# Altium footprint library ProjectAir_PcbLib.PcbLib: 19 footprints (part 1 of 2)
Each footprint in its own frame and in the unit in brackets; x right, y up, seen from the top. Pads: shape width x height; smd on the part's side, far side on the other; paste and mask are expansions set on the pad; w line width, h text height; cw(c..) or ccw(c..) is an arc to the next point about the centre after c.
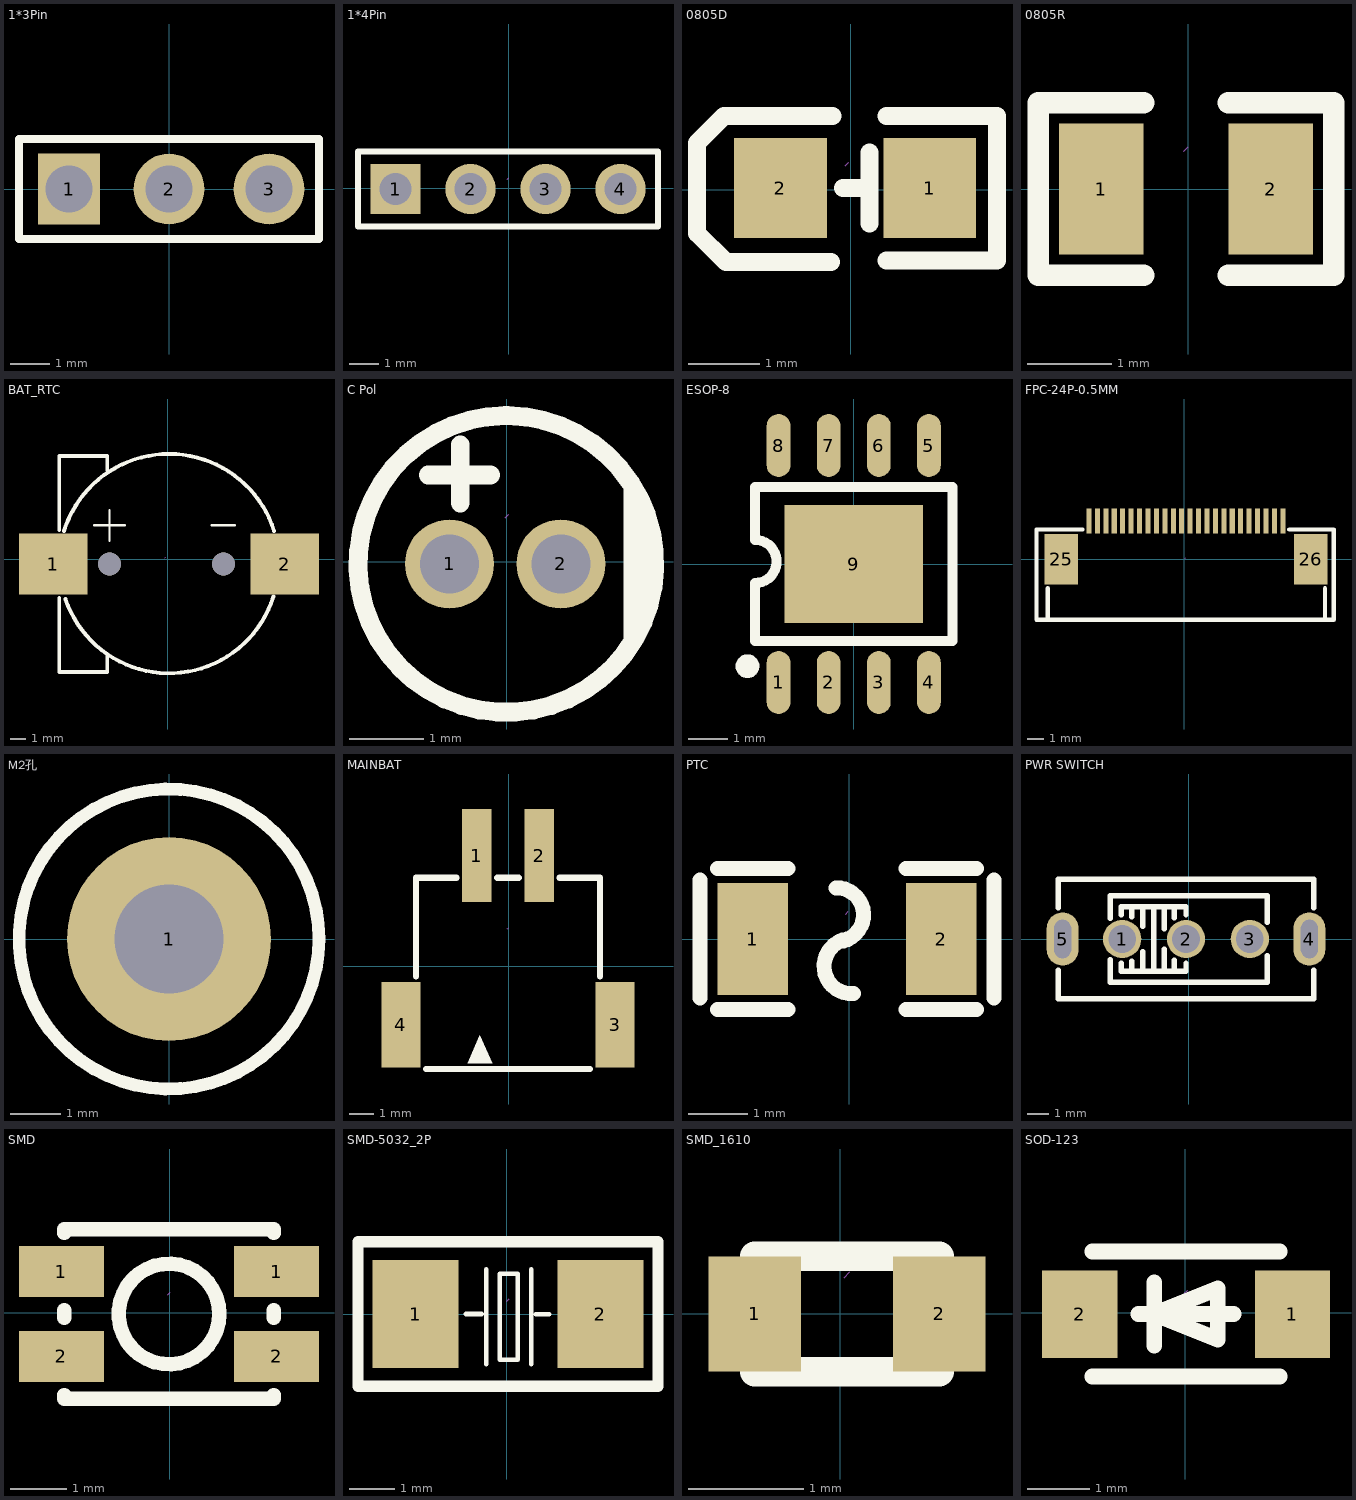
[diagram p0: the footprints below, top view; thin cyan lines are the x and y axes]

## 1*3Pin [mm] "1*3PIN"
pads (3):
  rect 1.575x1.8 hole 1.2: 1(-2.54,0)
  round 1.8 hole 1.2: 2(0,0) 3(2.54,0)
Top Overlay:
  lines w0.203: -3.81,-1.27 -3.81,1.27 -1.905,1.27 3.81,1.27 3.81,-1.27 -3.81,-1.27
Mechanical 15:
  lines w0.003: -0.025,0.337 0.025,0.387

## 1*4Pin [mil] "1*4PIN"
pads (4):
  rect 66.93x66.93 hole 43.31: 1(-151,-1)
  round 66.93 hole 43.31: 2(-51,-1) 3(49,-1) 4(149,-1)
Top Overlay:
  lines w7.99: -126,49 199,49
  lines w8: -126,49 -201,49 -201,-51 199,-51 199,49
Mechanical 15:
  lines w0.1: -2,12.25 0,14.25

## 0805D [mm] "DIODE 0805"
pads (2):
  rect 1.3x1.4 smd: 1(1.115,0.027) 2(-0.986,0.027)
Top Overlay:
  lines w0.254: -0.279,-1.016 -1.753,-1.016 -2.159,-0.61 -2.159,0.66 -1.778,1.041 -0.254,1.041 ; -0.104,0.027 0.165,0.027 ; 0.265,-0.474 0.265,0.527 ; 0.508,-0.991 2.057,-0.991 2.057,1.041 0.508,1.041
Mechanical 15:
  lines w0.003: -0.076,0.337 -0.025,0.387

## 0805R [mm] "0805R"
pads (2):
  rect 1x1.55 smd: 1(-1.028,0) 2(0.972,0)
Top Overlay:
  lines w0.254: -0.528,-1.02 -1.778,-1.02 -1.778,1.02 -0.528,1.02 ; 0.472,-1.02 1.722,-1.02 1.722,1.02 0.472,1.02
Mechanical 15:
  lines w0.003: -0.053,0.449 -0.003,0.5

## BAT_RTC [mm] "BAT_RTC"
pads (4):
  rect 4.5x4 smd: 1(-7.529,-0.299) 2(7.711,-0.299)
  round 1.5 hole 1.5 unplated: ""(-3.82,-0.299) ""(3.673,-0.299)
Top Overlay:
  lines w0.152: -4.836,2.241 -2.804,2.241 ; -3.82,1.225 -3.82,3.257 ; 2.911,2.241 4.435,2.241
  lines w0.254: -7.129,-2.53 -7.129,-7.411 -3.973,-7.411 -3.973,-6.211 ; -7.129,1.932 -7.129,6.813 -3.973,6.813 -3.973,5.872 ; -6.82,1.876 cw(c0.091,-0.299) 7.009,1.855 ; -6.724,-2.596 ccw(c0.091,-0.299) 6.963,-2.423
Mechanical 15:
  lines w0.003: -0.188,0.111 -0.138,0.162

## C Pol [mm] "C Pol"
pads (2):
  round 1.2 hole 0.8: 1(-0.773,-0.031) 2(0.729,-0.031)
Top Overlay:
  region: 1.578,-1.231 1.688,-1.108 1.859,-0.827 1.977,-0.52 2.037,-0.196 2.037,0.134 1.977,0.458 1.86,0.765 1.688,1.046 1.578,1.169
  lines w0.254: -1.06,1.169 -0.222,1.169 ; -0.628,0.788 -0.628,1.575 ; -0.023,1.968 ccw(c-0.007,-0.032) 0.01,1.968
Mechanical 15:
  lines w0.003: -0.023,0.591 0.028,0.642

## ESOP-8 [mm] "TC4056C"
pads (9):
  oval 0.6x1.598 smd: 1(-1.905,-3) 2(-0.635,-3) 3(0.635,-3) 4(1.905,-3) 5(1.905,3) 6(0.635,3) 7(-0.635,3) 8(-1.905,3)
  rect 3.5x3 smd: 9(0,0)
Top Overlay:
  lines w0.254: -2.5,-1.95 2.5,-1.95 2.5,1.95 -2.5,1.95 -2.5,0.61 cw(c-2.5,0.064) -2.499,-0.483 -2.5,-1.95
  lines w0.3: -2.692,-2.438 ccw(c-2.691,-2.588) -2.69,-2.438

## FPC-24P-0.5MM [mm] "FPC-24P"
pads (26):
  rect 0.3x1.5 smd: 1(5.854,2.254) 2(5.354,2.254) 3(4.854,2.254) 4(4.354,2.254) 5(3.854,2.254) 6(3.354,2.254) 7(2.854,2.254) 8(2.354,2.254) 9(1.854,2.254) 10(1.354,2.254) 11(0.854,2.254) 12(0.354,2.254) 13(-0.146,2.254) 14(-0.646,2.254) 15(-1.142,2.256) 16(-1.645,2.255) 17(-2.145,2.254) 18(-2.645,2.254) 19(-3.145,2.254) 20(-3.647,2.257) 21(-4.147,2.257) 22(-4.647,2.257) 23(-5.147,2.257) 24(-5.647,2.257)
  rect 2x3 smd: 25(-7.292,-0.006) 26(7.51,0)
Top Overlay:
  lines w0.254: -8.763,1.753 -8.763,-3.597 8.879,-3.596 8.879,1.754 6.235,1.754 ; -8.763,1.754 -6.029,1.754 ; -8.101,-3.596 -8.101,-1.737 ; 8.358,-3.596 8.358,-1.731
Mechanical 15:
  lines w0.003: 0.033,0.033 0.083,0.084

## M2孔 [mm] "M2孔"
pads (1):
  round 4.08 hole 2.175: 1(0,0)
Top Overlay:
  circle w0.254: c0,0 r3

## MAINBAT [mm] "MAINBATTARY"
pads (4):
  rect 1.2x3.8 smd: 1(-1.307,4.509) 2(1.233,4.509)
  rect 1.6x3.5 smd: 3(4.333,-2.391) 4(-4.407,-2.391)
Top Overlay:
  region: -1.688,-3.957 -0.799,-3.957 -0.672,-3.957 -1.18,-2.814
  lines w0.254: -3.787,-0.41 -3.787,3.609 -2.138,3.609 ; -3.384,-4.191 3.31,-4.191 ; -0.476,3.609 0.402,3.609 ; 2.064,3.609 3.713,3.609 3.713,-0.41
Mechanical 15:
  lines w0.003: -0.062,1.526 -0.012,1.577

## PTC [mm] "PTC"
pads (2):
  rect 1.2x1.9 smd: 1(-1.64,0) 2(1.56,0)
Top Overlay:
  lines w0.254: -2.54,-1 -2.54,1 ; -2.24,-1.2 -1.04,-1.2 ; -2.24,1.2 -1.04,1.2 ; -0.23,0.87 cw(c-0.218,0.411) -0.177,-0.046 ; -0.04,0 ccw(c0.039,-0.462) 0.07,-0.93 ; 0.96,-1.2 2.16,-1.2 ; 0.96,1.2 2.16,1.2 ; 2.46,-1 2.46,1
Mechanical 15:
  lines w0.003: -0.065,0.422 -0.015,0.473

## PWR SWITCH [mm] "PWR SWITCH"
pads (5):
  round 1.8 hole 1.3: 1(-3.127,0) 2(-0.127,0) 3(2.873,0)
  oval 1.5x2.499 hole 0.8 slot 1.8 at 90 deg: 4(5.673,0) 5(-5.927,0)
Top Overlay:
  lines w0.254: -6.127,-1.46 -6.127,-2.8 5.873,-2.8 5.873,-1.46 ; -6.127,1.46 -6.127,2.8 5.873,2.8 5.873,1.46 ; -3.683,-0.985 -3.683,-2.032 3.683,-2.032 3.683,-0.788 ; -3.683,0.985 -3.683,2.032 3.683,2.032 3.683,0.788 ; -3.175,-1.13 -3.175,-1.524 -0.127,-1.524 -0.127,-1.131 ; -3.175,1.13 -3.175,1.524 -0.127,1.524 -0.127,1.131 ; -2.676,-1.524 -2.676,-1.037 ; -2.676,1.037 -2.676,1.524 ; -2.168,-1.524 -2.168,-0.598 ; -2.168,0.598 -2.168,1.524 ; -1.651,-1.524 -1.651,1.524 ; -1.152,-1.524 -1.152,-0.474 ; -1.152,0.474 -1.152,1.524 ; -0.67,-1.524 -0.67,-0.992 ; -0.67,0.992 -0.67,1.524
Mechanical 15:
  lines w0.003: -0.152,0.575 -0.102,0.626

## SMD [mm] "KEY"
pads (4):
  rect 1.5x0.9 smd: 1(-1.917,0.726) 1(1.883,0.726) 2(-1.917,-0.774) 2(1.883,-0.774)
Top Overlay:
  circle w0.254: c-0.017,-0.024 r0.889
  lines w0.254: -1.867,-1.455 -1.867,-1.524 1.833,-1.524 1.833,-1.455 ; -1.867,-0.093 -1.867,0.045 ; -1.867,1.407 -1.867,1.476 1.833,1.476 1.833,1.407 ; 1.833,-0.093 1.833,0.045
Mechanical 15:
  lines w0.003: -0.042,0.312 0.008,0.363

## SMD-5032_2P [mm] "8M XTAL"
pads (2):
  rect 1.9x2.4 smd: 1(-2.027,0) 2(2.073,0)
Top Overlay:
  lines w0.1: -0.917,0 -0.561,0 ; -0.46,-1.109 -0.46,0.991 ; 0.54,-1.109 0.54,0.991 ; 0.64,-0.009 0.94,-0.009 ; -0.16,-1.009 0.24,-1.009 0.24,0.89 -0.16,0.89 -0.16,-1.009
  lines w0.254: -3.302,-1.6 -3.302,-0.7 -3.302,0.7 -3.302,1.6 3.348,1.6 3.348,0.7 3.348,-0.7 3.348,-1.6 -3.302,-1.6
Mechanical 15:
  lines w0.003: -0.002,0.286 0.048,0.337

## SMD_1610 [mm] "32.766K XTAL"
pads (2):
  rect 0.8x1 smd: 1(-0.743,0) 2(0.857,0)
Top Overlay:
  lines w0.254: -0.743,-0.5 -0.743,0.5 0.857,0.5 0.857,-0.5 -0.743,-0.5
Mechanical 15:
  lines w0.003: 0.032,0.315 0.082,0.366

## SOD-123 [mm] "1N4148"
pads (2):
  rect 1.2x1.4 smd: 1(1.714,-0.016) 2(-1.686,-0.016)
Top Overlay:
  lines w0.254: -1.486,-1.016 1.514,-1.016 ; -1.486,0.984 1.514,0.984 ; -0.748,-0.016 0.776,-0.016 ; -0.494,-0.524 -0.494,0.492 ; -0.494,-0.016 0.522,0.39 0.522,-0.422 -0.494,-0.016
Mechanical 15:
  lines w0.003: -0.011,0.316 0.039,0.367